# EAGLE library part SN65HVD75D (library ICs)
3.3-V Supply RS485 With IEC ESD protection
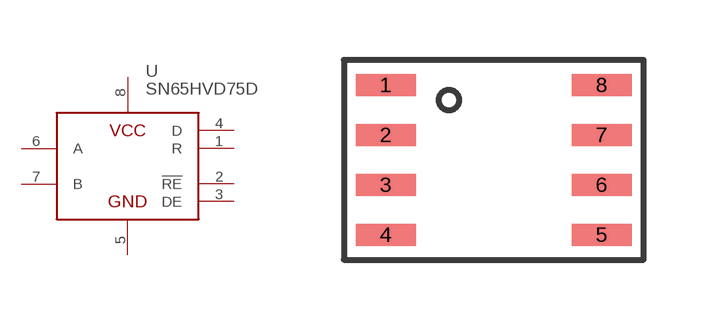
[diagram p229: symbol with the pads of SO8; footprint SO8]

Designator prefix U

## SN65HVD75D (DIGIKEY: 296-38570-1-ND; HEIGHT: 1.8; PRICE_PER: 2.09; VALUE: SN65HVD75D)  [SO8]
1  R
2  !RE
3  DE
4  D
5  GND
6  A
7  B
8  VCC

## Footprint SO8 (pad centres in mm)
smd 1.5 x 0.55: 1 -2.7,1.875; 2 -2.7,0.625; 3 -2.7,-0.625; 4 -2.7,-1.875; 5 2.7,-1.875; 6 2.7,-0.625; 7 2.7,0.625; 8 2.7,1.875